# EAGLE library part EMC2305 (library borkedlabs-analogics)
Multiple RPM-Based PWM Fan Controller for Five Fans
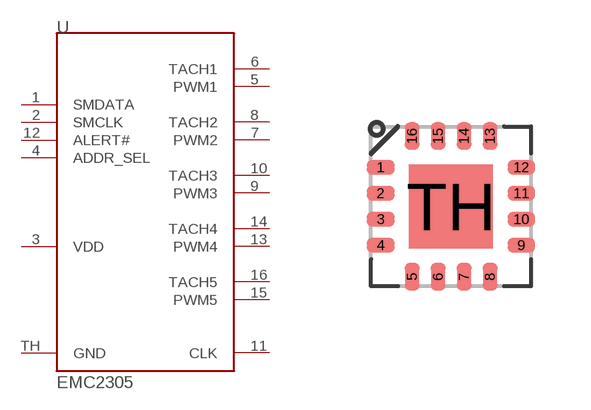
[diagram p1: symbol with the pads of QFN16-4X4; footprint QFN16-4X4]

Designator prefix U

## EMC2305 (MPN: EMC2305-1-AP-TR; PACKAGE: QFN16-4x4)  [QFN16-4X4]
1  SMDATA
2  SMCLK
3  VDD
4  ADDR_SEL
5  PWM1
6  TACH1
7  PWM2
8  TACH2
9  PWM3
10  TACH3
11  CLK
12  ALERT#
13  PWM4
14  TACH4
15  PWM5
16  TACH5
TH  GND

## Footprint QFN16-4X4 (pad centres in mm)
3x3 mm
smd 0.69 x 0.37: 1 -1.76,0.975; 2 -1.76,0.325; 3 -1.76,-0.325; 4 -1.76,-0.975; 9 1.76,-0.975; 10 1.76,-0.325; 11 1.76,0.325; 12 1.76,0.975
smd 0.37 x 0.69: 5 -0.975,-1.76; 6 -0.325,-1.76; 7 0.325,-1.76; 8 0.975,-1.76; 13 0.975,1.76; 14 0.325,1.76; 15 -0.325,1.76; 16 -0.975,1.76
smd 2.1 x 2.1: TH 0,0